# EAGLE library part ARDUINO_MINI_PRO (library modular_robot_parts)
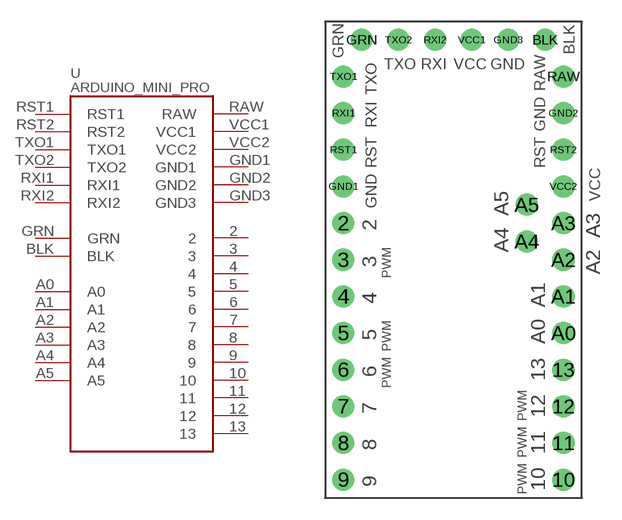
[diagram p1: symbol with the pads of ARDUINO_MINI_PRO; footprint ARDUINO_MINI_PRO]

Designator prefix -

## ARDUINO_MINI_PRO  [ARDUINO_MINI_PRO]
2  2
3  3
4  4
5  5
6  6
7  7
8  8
9  9
10  10
11  11
12  12
13  13
A0  A0
A1  A1
A2  A2
A3  A3
A4  A4
A5  A5
BLK  BLK
GND1  GND1
GND2  GND2
GND3  GND3
GRN  GRN
RAW  RAW
RST1  RST1
RST2  RST2
RXI1  RXI1
RXI2  RXI2
TXO1  TXO1
TXO2  TXO2
VCC1  VCC1
VCC2  VCC2

## Footprint ARDUINO_MINI_PRO (pad centres in mm)
drill 1.016 round: 2 1.27,19.05; 3 1.27,16.51; 4 1.27,13.97; 5 1.27,11.43; 6 1.27,8.89; 7 1.27,6.35; 8 1.27,3.81; 9 1.27,1.27; 10 16.51,1.27; 11 16.51,3.81; 12 16.51,6.35; 13 16.51,8.89; A0 16.51,11.43; A1 16.51,13.97; A2 16.51,16.51; A3 16.51,19.05; A4 13.97,17.78; A5 13.97,20.32; BLK 15.24,31.75; GND1 1.27,21.59; GND2 16.51,26.67; GND3 12.7,31.75; GRN 2.54,31.75; RAW 16.51,29.21; RST1 1.27,24.13; RST2 16.51,24.13; RXI1 1.27,26.67; RXI2 7.62,31.75; TXO1 1.27,29.21; TXO2 5.08,31.75; VCC1 10.16,31.75; VCC2 16.51,21.59